# Altium schematic symbol library net_tie.SchLib: 1 symbol
Pins are listed as number, name and electrical type; pins without a type are passive.

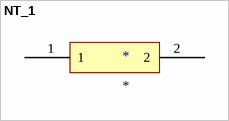
[diagram p0: symbol NT_1]

## NT_1
designator *  (net tie, no BOM)
footprint Net_Tie
pins: 1, 2